# EAGLE library part REG3 (library buslogic)
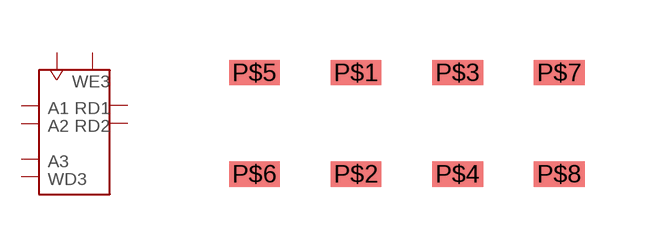
[diagram p0: symbol with the pads of 8PIN; footprint 8PIN]

Designator prefix -

## REG3  [8PIN]
P$1  A1
P$2  A2
P$3  A3
P$4  CLK
P$5  RD1
P$6  RD2
P$7  WD3
P$8  WE3

## Footprint 8PIN (pad centres in mm)
smd 1.27 x 0.635: P$1 -1.27,1.27; P$2 -1.27,-1.27; P$3 1.27,1.27; P$4 1.27,-1.27; P$5 -3.81,1.27; P$6 -3.81,-1.27; P$7 3.81,1.27; P$8 3.81,-1.27